# EAGLE library part MAXON380200DEC50-5 (library charleses_parts_bin)
maxon DEC50/5 compact brushless DC drive 50v max, 5A continuous
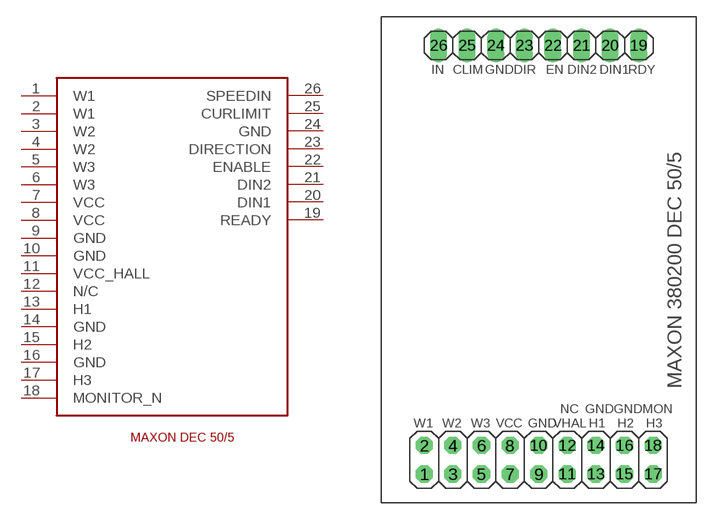
[diagram p2: symbol with the pads of MAXON_DEC; footprint MAXON_DEC]

Designator prefix -

## MAXON380200DEC50-5  [MAXON_DEC]
1  W1  out
2  W1  out
3  W2  out
4  W2  out
5  W3  out
6  W3  out
7  VCC  pwr
8  VCC  pwr
9  GND  pwr
10  GND  pwr
11  VCC_HALL  pwr
12  N/C  nc
13  H1  in
14  GND  pwr
15  H2  in
16  GND  pwr
17  H3  in
18  MONITOR_N  pas
19  READY  pas
20  DIN1  pas
21  DIN2  pas
22  ENABLE  pas
23  DIRECTION  pas
24  GND  pwr
25  CURLIMIT  pas
26  SPEEDIN  pas

## Footprint MAXON_DEC (pad centres in mm)
footprint of the maxon DEC 50/5 module
drill 1.016 octagon: 1 -15.24,-22.86; 2 -15.24,-20.32; 3 -12.7,-22.86; 4 -12.7,-20.32; 5 -10.16,-22.86; 6 -10.16,-20.32; 7 -7.62,-22.86; 8 -7.62,-20.32; 9 -5.08,-22.86; 10 -5.08,-20.32; 11 -2.54,-22.86; 12 -2.54,-20.32; 13 0,-22.86; 14 0,-20.32; 15 2.54,-22.86; 16 2.54,-20.32; 17 5.08,-22.86; 18 5.08,-20.32
drill 1.016 long: 19 3.81,15.24; 20 1.27,15.24; 21 -1.27,15.24; 22 -3.81,15.24; 23 -6.35,15.24; 24 -8.89,15.24; 25 -11.43,15.24; 26 -13.97,15.24